# Altium footprint library CP_27.5MMX25.8MM.pcblib: 1 footprints
Each footprint in its own frame and in the unit in brackets; x right, y up, seen from the top. Pads: shape width x height; smd on the part's side, far side on the other; paste and mask are expansions set on the pad; w line width, h text height; cw(c..) or ccw(c..) is an arc to the next point about the centre after c.
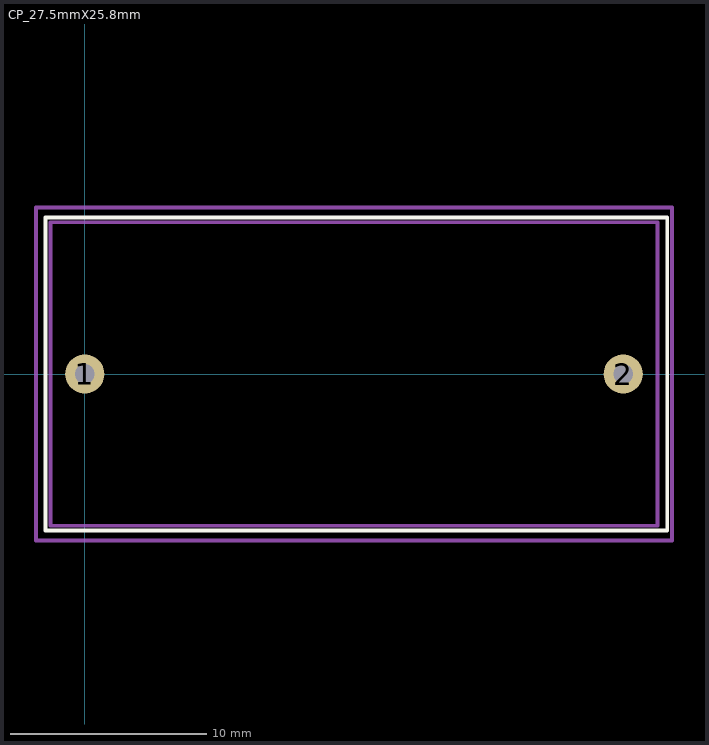
[diagram p0: the footprint, top view; thin cyan lines are the x and y axes]

## CP_27.5mmX25.8mm [mm]
pads (2):
  round 2 hole 1 mask+0.05: 1(0,0) 2(27.5,0)
Top Overlay:
  lines w0.2: -2,-8 -2,8 29.75,8 29.75,-8 0.75,-8 -2,-8
Top Assembly:
  lines w0.2: -1.75,-7.75 29.25,-7.75 29.25,7.75 -1.75,7.75 -1.75,-7.75
Top Courtyard:
  lines w0.2: -2.5,-8.5 30,-8.5 30,8.5 -2.5,8.5 -2.5,-8.5
3D body "890334027025 (rev1) v1.step": height 29.35, standoff -3.65, extent -1.75,-7.775 29.25,7.725